# Altium schematic symbol library MitchSwitch_Bypass.SCHLIB: 283 symbols (part 3 of 3)
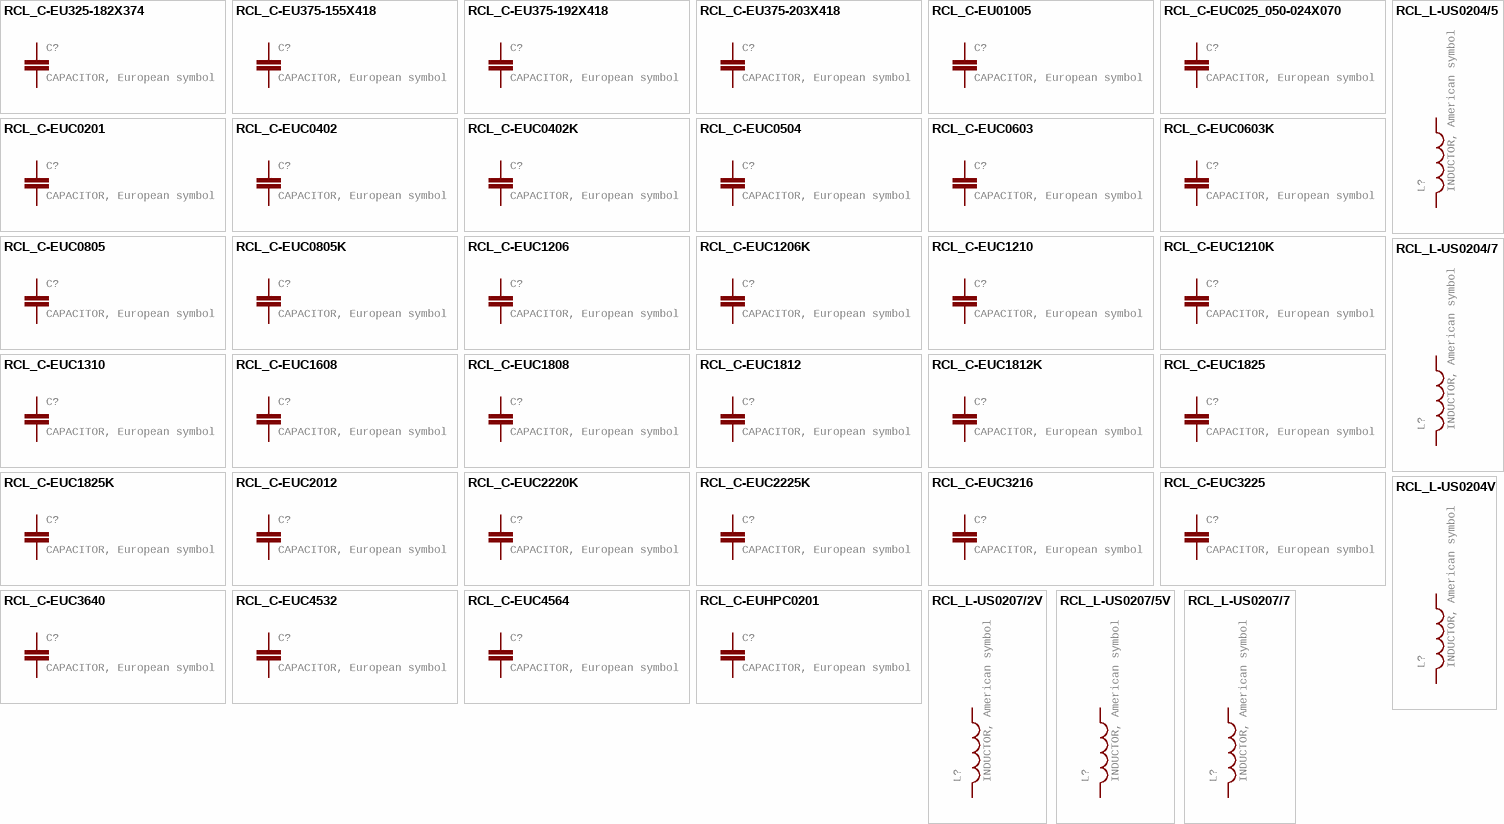
[diagram p11: symbols RCL_C-EU325-182X374 to RCL_L-US0207/7]

## RCL_C-EU375-192X418
designator C?, comment CAPACITOR, European symbol
GateName_1: G$1; SymbolName_1: RCL_C-EU; DeviceName: 375-192X418; POPULARITY: 0; LibraryName: MitchSwitch_Bypass; DeviceSetName: RCL_C-EU; Package: RCL_C375-192X418; SPICEPREFIX: C
footprint RCL_C375-192X418
pins: 1, 2

## RCL_C-EU375-203X418
designator C?, comment CAPACITOR, European symbol
GateName_1: G$1; SymbolName_1: RCL_C-EU; DeviceName: 375-203X418; POPULARITY: 0; LibraryName: MitchSwitch_Bypass; DeviceSetName: RCL_C-EU; Package: RCL_C375-203X418; SPICEPREFIX: C
footprint RCL_C375-203X418
pins: 1, 2

## RCL_C-EU01005
designator C?, comment CAPACITOR, European symbol
GateName_1: G$1; SymbolName_1: RCL_C-EU; DeviceName: 01005; POPULARITY: 0; LibraryName: MitchSwitch_Bypass; DeviceSetName: RCL_C-EU; Package: RCL_C01005; SPICEPREFIX: C
footprint RCL_C01005
pins: 1, 2

## RCL_C-EUC025_050-024X070
designator C?, comment CAPACITOR, European symbol
GateName_1: G$1; SymbolName_1: RCL_C-EU; DeviceName: C025_050-024X070; POPULARITY: 0; LibraryName: MitchSwitch_Bypass; DeviceSetName: RCL_C-EU; Package: RCL_C025_050-024X070; SPICEPREFIX: C
footprint RCL_C025_050-024X070
pins: 1, 2

## RCL_C-EUC0201
designator C?, comment CAPACITOR, European symbol
GateName_1: G$1; SymbolName_1: RCL_C-EU; DeviceName: C0201; POPULARITY: 0; LibraryName: MitchSwitch_Bypass; DeviceSetName: RCL_C-EU; Package: RCL_C0201; SPICEPREFIX: C
footprint RCL_C0201
pins: 1, 2

## RCL_C-EUC0402
designator C?, comment CAPACITOR, European symbol
GateName_1: G$1; SymbolName_1: RCL_C-EU; DeviceName: C0402; POPULARITY: 18; LibraryName: MitchSwitch_Bypass; DeviceSetName: RCL_C-EU; Package: RCL_C0402; SPICEPREFIX: C
footprint RCL_C0402
pins: 1, 2

## RCL_C-EUC0402K
designator C?, comment CAPACITOR, European symbol
GateName_1: G$1; SymbolName_1: RCL_C-EU; DeviceName: C0402K; POPULARITY: 15; LibraryName: MitchSwitch_Bypass; DeviceSetName: RCL_C-EU; Package: RCL_C0402K; SPICEPREFIX: C
footprint RCL_C0402K
pins: 1, 2

## RCL_C-EUC0504
designator C?, comment CAPACITOR, European symbol
GateName_1: G$1; SymbolName_1: RCL_C-EU; DeviceName: C0504; POPULARITY: 2; LibraryName: MitchSwitch_Bypass; DeviceSetName: RCL_C-EU; Package: RCL_C0504; SPICEPREFIX: C
footprint RCL_C0504
pins: 1, 2

## RCL_C-EUC0603
designator C?, comment CAPACITOR, European symbol
GateName_1: G$1; SymbolName_1: RCL_C-EU; DeviceName: C0603; POPULARITY: 73; LibraryName: MitchSwitch_Bypass; DeviceSetName: RCL_C-EU; Package: RCL_C0603; SPICEPREFIX: C
footprint RCL_C0603
pins: 1, 2

## RCL_C-EUC0603K
designator C?, comment CAPACITOR, European symbol
GateName_1: G$1; SymbolName_1: RCL_C-EU; DeviceName: C0603K; POPULARITY: 30; LibraryName: MitchSwitch_Bypass; DeviceSetName: RCL_C-EU; Package: RCL_C0603K; SPICEPREFIX: C
footprint RCL_C0603K
pins: 1, 2

## RCL_C-EUC0805
designator C?, comment CAPACITOR, European symbol
GateName_1: G$1; SymbolName_1: RCL_C-EU; DeviceName: C0805; POPULARITY: 88; LibraryName: MitchSwitch_Bypass; DeviceSetName: RCL_C-EU; Package: RCL_C0805; SPICEPREFIX: C
footprint RCL_C0805
pins: 1, 2

## RCL_C-EUC0805K
designator C?, comment CAPACITOR, European symbol
GateName_1: G$1; SymbolName_1: RCL_C-EU; DeviceName: C0805K; POPULARITY: 52; LibraryName: MitchSwitch_Bypass; DeviceSetName: RCL_C-EU; Package: RCL_C0805K; SPICEPREFIX: C
footprint RCL_C0805K
pins: 1, 2

## RCL_C-EUC1206
designator C?, comment CAPACITOR, European symbol
GateName_1: G$1; SymbolName_1: RCL_C-EU; DeviceName: C1206; POPULARITY: 54; LibraryName: MitchSwitch_Bypass; DeviceSetName: RCL_C-EU; Package: RCL_C1206; SPICEPREFIX: C
footprint RCL_C1206
pins: 1, 2

## RCL_C-EUC1206K
designator C?, comment CAPACITOR, European symbol
GateName_1: G$1; SymbolName_1: RCL_C-EU; DeviceName: C1206K; POPULARITY: 13; LibraryName: MitchSwitch_Bypass; DeviceSetName: RCL_C-EU; Package: RCL_C1206K; SPICEPREFIX: C
footprint RCL_C1206K
pins: 1, 2

## RCL_C-EUC1210
designator C?, comment CAPACITOR, European symbol
GateName_1: G$1; SymbolName_1: RCL_C-EU; DeviceName: C1210; POPULARITY: 0; LibraryName: MitchSwitch_Bypass; DeviceSetName: RCL_C-EU; Package: RCL_C1210; SPICEPREFIX: C
footprint RCL_C1210
pins: 1, 2

## RCL_C-EUC1210K
designator C?, comment CAPACITOR, European symbol
GateName_1: G$1; SymbolName_1: RCL_C-EU; DeviceName: C1210K; POPULARITY: 0; LibraryName: MitchSwitch_Bypass; DeviceSetName: RCL_C-EU; Package: RCL_C1210K; SPICEPREFIX: C
footprint RCL_C1210K
pins: 1, 2

## RCL_C-EUC1310
designator C?, comment CAPACITOR, European symbol
GateName_1: G$1; SymbolName_1: RCL_C-EU; DeviceName: C1310; POPULARITY: 0; LibraryName: MitchSwitch_Bypass; DeviceSetName: RCL_C-EU; Package: RCL_C1310; SPICEPREFIX: C
footprint RCL_C1310
pins: 1, 2

## RCL_C-EUC1608
designator C?, comment CAPACITOR, European symbol
GateName_1: G$1; SymbolName_1: RCL_C-EU; DeviceName: C1608; POPULARITY: 3; LibraryName: MitchSwitch_Bypass; DeviceSetName: RCL_C-EU; Package: RCL_C1608; SPICEPREFIX: C
footprint RCL_C1608
pins: 1, 2

## RCL_C-EUC1808
designator C?, comment CAPACITOR, European symbol
GateName_1: G$1; SymbolName_1: RCL_C-EU; DeviceName: C1808; POPULARITY: 0; LibraryName: MitchSwitch_Bypass; DeviceSetName: RCL_C-EU; Package: RCL_C1808; SPICEPREFIX: C
footprint RCL_C1808
pins: 1, 2

## RCL_C-EUC1812
designator C?, comment CAPACITOR, European symbol
GateName_1: G$1; SymbolName_1: RCL_C-EU; DeviceName: C1812; POPULARITY: 3; LibraryName: MitchSwitch_Bypass; DeviceSetName: RCL_C-EU; Package: RCL_C1812; SPICEPREFIX: C
footprint RCL_C1812
pins: 1, 2

## RCL_C-EUC1812K
designator C?, comment CAPACITOR, European symbol
GateName_1: G$1; SymbolName_1: RCL_C-EU; DeviceName: C1812K; POPULARITY: 0; LibraryName: MitchSwitch_Bypass; DeviceSetName: RCL_C-EU; Package: RCL_C1812K; SPICEPREFIX: C
footprint RCL_C1812K
pins: 1, 2

## RCL_C-EUC1825
designator C?, comment CAPACITOR, European symbol
GateName_1: G$1; SymbolName_1: RCL_C-EU; DeviceName: C1825; POPULARITY: 0; LibraryName: MitchSwitch_Bypass; DeviceSetName: RCL_C-EU; Package: RCL_C1825; SPICEPREFIX: C
footprint RCL_C1825
pins: 1, 2

## RCL_C-EUC1825K
designator C?, comment CAPACITOR, European symbol
GateName_1: G$1; SymbolName_1: RCL_C-EU; DeviceName: C1825K; POPULARITY: 0; LibraryName: MitchSwitch_Bypass; DeviceSetName: RCL_C-EU; Package: RCL_C1825K; SPICEPREFIX: C
footprint RCL_C1825K
pins: 1, 2

## RCL_C-EUC2012
designator C?, comment CAPACITOR, European symbol
GateName_1: G$1; SymbolName_1: RCL_C-EU; DeviceName: C2012; POPULARITY: 0; LibraryName: MitchSwitch_Bypass; DeviceSetName: RCL_C-EU; Package: RCL_C2012; SPICEPREFIX: C
footprint RCL_C2012
pins: 1, 2

## RCL_C-EUC2220K
designator C?, comment CAPACITOR, European symbol
GateName_1: G$1; SymbolName_1: RCL_C-EU; DeviceName: C2220K; POPULARITY: 0; LibraryName: MitchSwitch_Bypass; DeviceSetName: RCL_C-EU; Package: RCL_C2220K; SPICEPREFIX: C
footprint RCL_C2220K
pins: 1, 2

## RCL_C-EUC2225K
designator C?, comment CAPACITOR, European symbol
GateName_1: G$1; SymbolName_1: RCL_C-EU; DeviceName: C2225K; POPULARITY: 0; LibraryName: MitchSwitch_Bypass; DeviceSetName: RCL_C-EU; Package: RCL_C2225K; SPICEPREFIX: C
footprint RCL_C2225K
pins: 1, 2

## RCL_C-EUC3216
designator C?, comment CAPACITOR, European symbol
GateName_1: G$1; SymbolName_1: RCL_C-EU; DeviceName: C3216; POPULARITY: 4; LibraryName: MitchSwitch_Bypass; DeviceSetName: RCL_C-EU; Package: RCL_C3216; SPICEPREFIX: C
footprint RCL_C3216
pins: 1, 2

## RCL_C-EUC3225
designator C?, comment CAPACITOR, European symbol
GateName_1: G$1; SymbolName_1: RCL_C-EU; DeviceName: C3225; POPULARITY: 0; LibraryName: MitchSwitch_Bypass; DeviceSetName: RCL_C-EU; Package: RCL_C3225; SPICEPREFIX: C
footprint RCL_C3225
pins: 1, 2

## RCL_C-EUC3640
designator C?, comment CAPACITOR, European symbol
GateName_1: G$1; SymbolName_1: RCL_C-EU; DeviceName: C3640; POPULARITY: 0; LibraryName: MitchSwitch_Bypass; DeviceSetName: RCL_C-EU; Package: RCL_C3640; SPICEPREFIX: C
footprint RCL_C3640
pins: 1, 2

## RCL_C-EUC4532
designator C?, comment CAPACITOR, European symbol
GateName_1: G$1; SymbolName_1: RCL_C-EU; DeviceName: C4532; POPULARITY: 0; LibraryName: MitchSwitch_Bypass; DeviceSetName: RCL_C-EU; Package: RCL_C4532; SPICEPREFIX: C
footprint RCL_C4532
pins: 1, 2

## RCL_C-EUC4564
designator C?, comment CAPACITOR, European symbol
GateName_1: G$1; SymbolName_1: RCL_C-EU; DeviceName: C4564; POPULARITY: 0; LibraryName: MitchSwitch_Bypass; DeviceSetName: RCL_C-EU; Package: RCL_C4564; SPICEPREFIX: C
footprint RCL_C4564
pins: 1, 2

## RCL_C-EUHPC0201
designator C?, comment CAPACITOR, European symbol
GateName_1: G$1; SymbolName_1: RCL_C-EU; DeviceName: HPC0201; POPULARITY: 0; LibraryName: MitchSwitch_Bypass; DeviceSetName: RCL_C-EU; Package: RCL_HPC0201; SPICEPREFIX: C
footprint RCL_HPC0201
pins: 1, 2

## RCL_L-US0204/5
designator L?, comment INDUCTOR, American symbol
GateName_1: G$1; SymbolName_1: RCL_L-US; DeviceName: 0204/5; POPULARITY: 0; LibraryName: MitchSwitch_Bypass; DeviceSetName: RCL_L-US; Package: RCL_0204/5; SPICEPREFIX: L
footprint RCL_0204/5
pins: 1, 2

## RCL_L-US0204/7
designator L?, comment INDUCTOR, American symbol
GateName_1: G$1; SymbolName_1: RCL_L-US; DeviceName: 0204/7; POPULARITY: 8; LibraryName: MitchSwitch_Bypass; DeviceSetName: RCL_L-US; Package: RCL_0204/7; SPICEPREFIX: L
footprint RCL_0204/7
pins: 1, 2

## RCL_L-US0204V
designator L?, comment INDUCTOR, American symbol
GateName_1: G$1; SymbolName_1: RCL_L-US; DeviceName: 0204V; POPULARITY: 0; LibraryName: MitchSwitch_Bypass; DeviceSetName: RCL_L-US; Package: RCL_0204V; SPICEPREFIX: L
footprint RCL_0204V
pins: 1, 2

## RCL_L-US0207/2V
designator L?, comment INDUCTOR, American symbol
GateName_1: G$1; SymbolName_1: RCL_L-US; DeviceName: 0207/2V; POPULARITY: 0; LibraryName: MitchSwitch_Bypass; DeviceSetName: RCL_L-US; Package: RCL_0207/2V; SPICEPREFIX: L
footprint RCL_0207/2V
pins: 1, 2

## RCL_L-US0207/5V
designator L?, comment INDUCTOR, American symbol
GateName_1: G$1; SymbolName_1: RCL_L-US; DeviceName: 0207/5V; POPULARITY: 0; LibraryName: MitchSwitch_Bypass; DeviceSetName: RCL_L-US; Package: RCL_0207/5V; SPICEPREFIX: L
footprint RCL_0207/5V
pins: 1, 2

## RCL_L-US0207/7
designator L?, comment INDUCTOR, American symbol
GateName_1: G$1; SymbolName_1: RCL_L-US; DeviceName: 0207/7; POPULARITY: 2; LibraryName: MitchSwitch_Bypass; DeviceSetName: RCL_L-US; Package: RCL_0207/7; SPICEPREFIX: L
footprint RCL_0207/7
pins: 1, 2

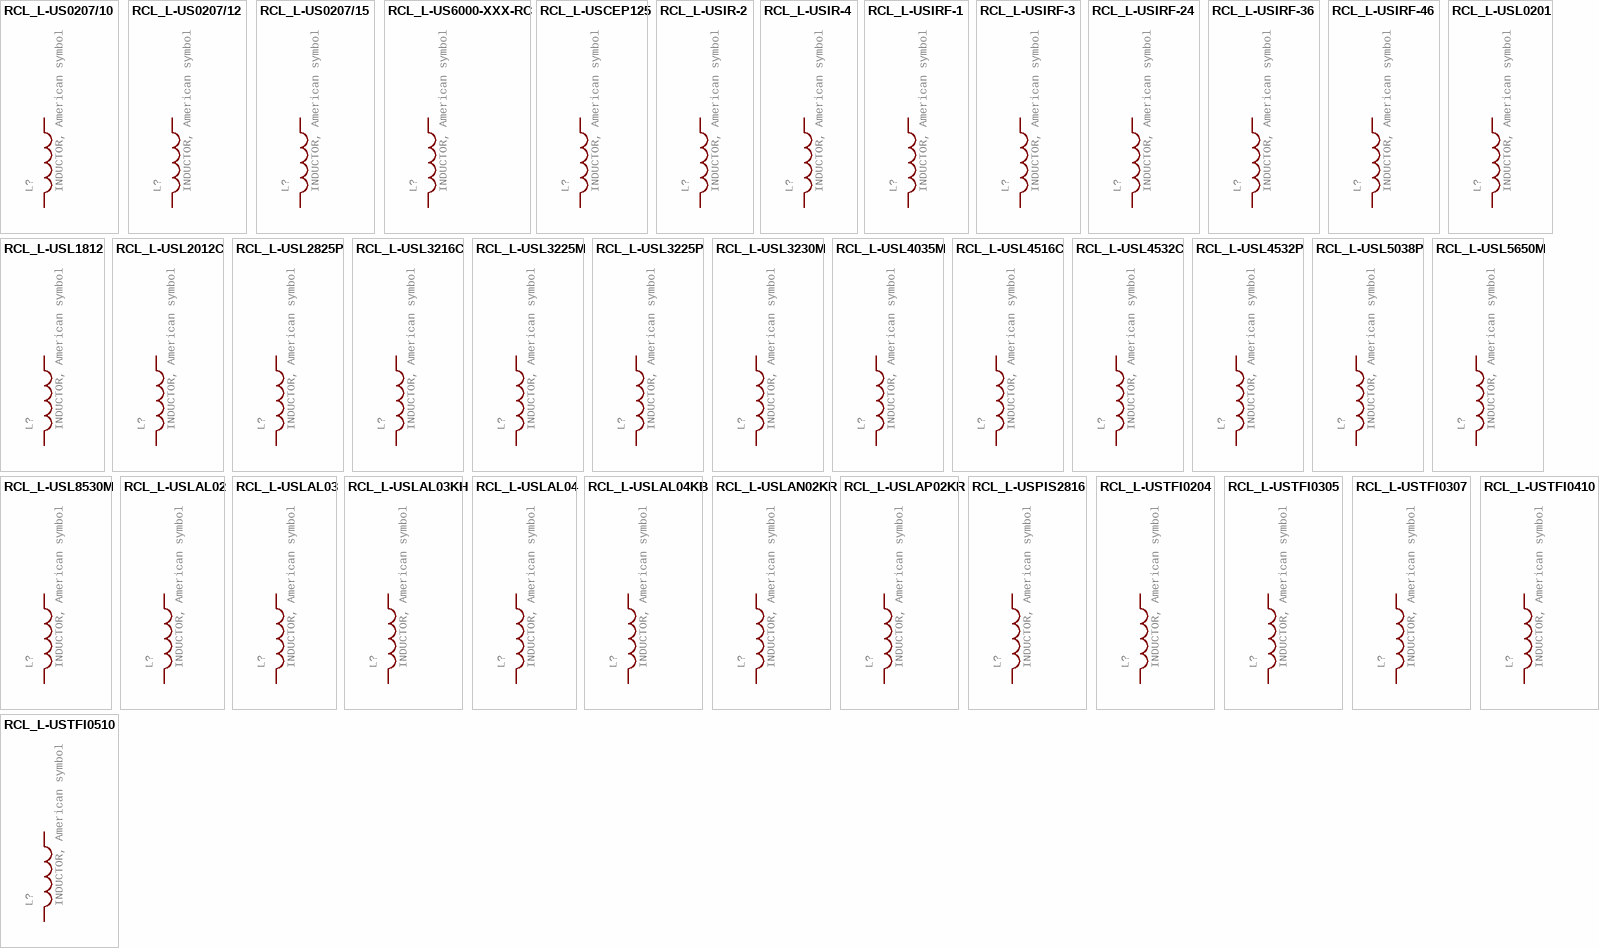
[diagram p6: symbols RCL_L-US0207/10 to RCL_L-USTFI0510]

## RCL_L-US0207/10
designator L?, comment INDUCTOR, American symbol
GateName_1: G$1; SymbolName_1: RCL_L-US; DeviceName: 0207/10; POPULARITY: 6; LibraryName: MitchSwitch_Bypass; DeviceSetName: RCL_L-US; Package: RCL_0207/10; SPICEPREFIX: L
footprint RCL_0207/10
pins: 1, 2

## RCL_L-US0207/12
designator L?, comment INDUCTOR, American symbol
GateName_1: G$1; SymbolName_1: RCL_L-US; DeviceName: 0207/12; POPULARITY: 0; LibraryName: MitchSwitch_Bypass; DeviceSetName: RCL_L-US; Package: RCL_0207/12; SPICEPREFIX: L
footprint RCL_0207/12
pins: 1, 2

## RCL_L-US0207/15
designator L?, comment INDUCTOR, American symbol
GateName_1: G$1; SymbolName_1: RCL_L-US; DeviceName: 0207/15; POPULARITY: 0; LibraryName: MitchSwitch_Bypass; DeviceSetName: RCL_L-US; Package: RCL_0207/15; SPICEPREFIX: L
footprint RCL_0207/15
pins: 1, 2

## RCL_L-US6000-XXX-RC
designator L?, comment INDUCTOR, American symbol
GateName_1: G$1; SymbolName_1: RCL_L-US; DeviceName: 6000-XXX-RC; POPULARITY: 5; LibraryName: MitchSwitch_Bypass; DeviceSetName: RCL_L-US; Package: RCL_6000-XXXX-RC; SPICEPREFIX: L
footprint RCL_6000-XXXX-RC
pins: 1, 2

## RCL_L-USCEP125
designator L?, comment INDUCTOR, American symbol
GateName_1: G$1; SymbolName_1: RCL_L-US; DeviceName: CEP125; POPULARITY: 0; LibraryName: MitchSwitch_Bypass; DeviceSetName: RCL_L-US; Package: RCL_CEP125; SPICEPREFIX: L
footprint RCL_CEP125
pins: 1, 2

## RCL_L-USIR-2
designator L?, comment INDUCTOR, American symbol
GateName_1: G$1; SymbolName_1: RCL_L-US; DeviceName: IR-2; POPULARITY: 0; LibraryName: MitchSwitch_Bypass; DeviceSetName: RCL_L-US; Package: RCL_IR-2; SPICEPREFIX: L
footprint RCL_IR-2
pins: 1, 2

## RCL_L-USIR-4
designator L?, comment INDUCTOR, American symbol
GateName_1: G$1; SymbolName_1: RCL_L-US; DeviceName: IR-4; POPULARITY: 0; LibraryName: MitchSwitch_Bypass; DeviceSetName: RCL_L-US; Package: RCL_IR-4; SPICEPREFIX: L
footprint RCL_IR-4
pins: 1, 2

## RCL_L-USIRF-1
designator L?, comment INDUCTOR, American symbol
GateName_1: G$1; SymbolName_1: RCL_L-US; DeviceName: IRF-1; POPULARITY: 0; LibraryName: MitchSwitch_Bypass; DeviceSetName: RCL_L-US; Package: RCL_IRF-1; SPICEPREFIX: L
footprint RCL_IRF-1
pins: 1, 2

## RCL_L-USIRF-3
designator L?, comment INDUCTOR, American symbol
GateName_1: G$1; SymbolName_1: RCL_L-US; DeviceName: IRF-3; POPULARITY: 0; LibraryName: MitchSwitch_Bypass; DeviceSetName: RCL_L-US; Package: RCL_IRF-3; SPICEPREFIX: L
footprint RCL_IRF-3
pins: 1, 2

## RCL_L-USIRF-24
designator L?, comment INDUCTOR, American symbol
GateName_1: G$1; SymbolName_1: RCL_L-US; DeviceName: IRF-24; POPULARITY: 0; LibraryName: MitchSwitch_Bypass; DeviceSetName: RCL_L-US; Package: RCL_IRF24; SPICEPREFIX: L
footprint RCL_IRF24
pins: 1, 2

## RCL_L-USIRF-36
designator L?, comment INDUCTOR, American symbol
GateName_1: G$1; SymbolName_1: RCL_L-US; DeviceName: IRF-36; POPULARITY: 0; LibraryName: MitchSwitch_Bypass; DeviceSetName: RCL_L-US; Package: RCL_IRF36; SPICEPREFIX: L
footprint RCL_IRF36
pins: 1, 2

## RCL_L-USIRF-46
designator L?, comment INDUCTOR, American symbol
GateName_1: G$1; SymbolName_1: RCL_L-US; DeviceName: IRF-46; POPULARITY: 0; LibraryName: MitchSwitch_Bypass; DeviceSetName: RCL_L-US; Package: RCL_IRF46; SPICEPREFIX: L
footprint RCL_IRF46
pins: 1, 2

## RCL_L-USL0201
designator L?, comment INDUCTOR, American symbol
GateName_1: G$1; SymbolName_1: RCL_L-US; DeviceName: L0201; POPULARITY: 0; LibraryName: MitchSwitch_Bypass; DeviceSetName: RCL_L-US; Package: RCL_L0201; SPICEPREFIX: L
footprint RCL_L0201
pins: 1, 2

## RCL_L-USL1812
designator L?, comment INDUCTOR, American symbol
GateName_1: G$1; SymbolName_1: RCL_L-US; DeviceName: L1812; POPULARITY: 3; LibraryName: MitchSwitch_Bypass; DeviceSetName: RCL_L-US; Package: RCL_L1812; SPICEPREFIX: L
footprint RCL_L1812
pins: 1, 2

## RCL_L-USL2012C
designator L?, comment INDUCTOR, American symbol
GateName_1: G$1; SymbolName_1: RCL_L-US; DeviceName: L2012C; POPULARITY: 6; LibraryName: MitchSwitch_Bypass; DeviceSetName: RCL_L-US; Package: RCL_L2012C; SPICEPREFIX: L
footprint RCL_L2012C
pins: 1, 2

## RCL_L-USL2825P
designator L?, comment INDUCTOR, American symbol
GateName_1: G$1; SymbolName_1: RCL_L-US; DeviceName: L2825P; POPULARITY: 3; LibraryName: MitchSwitch_Bypass; DeviceSetName: RCL_L-US; Package: RCL_L2825P; SPICEPREFIX: L
footprint RCL_L2825P
pins: 1, 2

## RCL_L-USL3216C
designator L?, comment INDUCTOR, American symbol
GateName_1: G$1; SymbolName_1: RCL_L-US; DeviceName: L3216C; POPULARITY: 3; LibraryName: MitchSwitch_Bypass; DeviceSetName: RCL_L-US; Package: RCL_L3216C; SPICEPREFIX: L
footprint RCL_L3216C
pins: 1, 2

## RCL_L-USL3225M
designator L?, comment INDUCTOR, American symbol
GateName_1: G$1; SymbolName_1: RCL_L-US; DeviceName: L3225M; POPULARITY: 11; LibraryName: MitchSwitch_Bypass; DeviceSetName: RCL_L-US; Package: RCL_L3225M; SPICEPREFIX: L
footprint RCL_L3225M
pins: 1, 2

## RCL_L-USL3225P
designator L?, comment INDUCTOR, American symbol
GateName_1: G$1; SymbolName_1: RCL_L-US; DeviceName: L3225P; POPULARITY: 1; LibraryName: MitchSwitch_Bypass; DeviceSetName: RCL_L-US; Package: RCL_L3225P; SPICEPREFIX: L
footprint RCL_L3225P
pins: 1, 2

## RCL_L-USL3230M
designator L?, comment INDUCTOR, American symbol
GateName_1: G$1; SymbolName_1: RCL_L-US; DeviceName: L3230M; POPULARITY: 0; LibraryName: MitchSwitch_Bypass; DeviceSetName: RCL_L-US; Package: RCL_L3230M; SPICEPREFIX: L
footprint RCL_L3230M
pins: 1, 2

## RCL_L-USL4035M
designator L?, comment INDUCTOR, American symbol
GateName_1: G$1; SymbolName_1: RCL_L-US; DeviceName: L4035M; POPULARITY: 0; LibraryName: MitchSwitch_Bypass; DeviceSetName: RCL_L-US; Package: RCL_L4035M; SPICEPREFIX: L
footprint RCL_L4035M
pins: 1, 2

## RCL_L-USL4516C
designator L?, comment INDUCTOR, American symbol
GateName_1: G$1; SymbolName_1: RCL_L-US; DeviceName: L4516C; POPULARITY: 0; LibraryName: MitchSwitch_Bypass; DeviceSetName: RCL_L-US; Package: RCL_L4516C; SPICEPREFIX: L
footprint RCL_L4516C
pins: 1, 2

## RCL_L-USL4532C
designator L?, comment INDUCTOR, American symbol
GateName_1: G$1; SymbolName_1: RCL_L-US; DeviceName: L4532C; POPULARITY: 0; LibraryName: MitchSwitch_Bypass; DeviceSetName: RCL_L-US; Package: RCL_L4532M; SPICEPREFIX: L
footprint RCL_L4532M
pins: 1, 2

## RCL_L-USL4532P
designator L?, comment INDUCTOR, American symbol
GateName_1: G$1; SymbolName_1: RCL_L-US; DeviceName: L4532P; POPULARITY: 0; LibraryName: MitchSwitch_Bypass; DeviceSetName: RCL_L-US; Package: RCL_L4532P; SPICEPREFIX: L
footprint RCL_L4532P
pins: 1, 2

## RCL_L-USL5038P
designator L?, comment INDUCTOR, American symbol
GateName_1: G$1; SymbolName_1: RCL_L-US; DeviceName: L5038P; POPULARITY: 0; LibraryName: MitchSwitch_Bypass; DeviceSetName: RCL_L-US; Package: RCL_L5038P; SPICEPREFIX: L
footprint RCL_L5038P
pins: 1, 2

## RCL_L-USL5650M
designator L?, comment INDUCTOR, American symbol
GateName_1: G$1; SymbolName_1: RCL_L-US; DeviceName: L5650M; POPULARITY: 0; LibraryName: MitchSwitch_Bypass; DeviceSetName: RCL_L-US; Package: RCL_L5650M; SPICEPREFIX: L
footprint RCL_L5650M
pins: 1, 2

## RCL_L-USL8530M
designator L?, comment INDUCTOR, American symbol
GateName_1: G$1; SymbolName_1: RCL_L-US; DeviceName: L8530M; POPULARITY: 0; LibraryName: MitchSwitch_Bypass; DeviceSetName: RCL_L-US; Package: RCL_L8530M; SPICEPREFIX: L
footprint RCL_L8530M
pins: 1, 2

## RCL_L-USLAL02
designator L?, comment INDUCTOR, American symbol
GateName_1: G$1; SymbolName_1: RCL_L-US; DeviceName: LAL02; POPULARITY: 0; LibraryName: MitchSwitch_Bypass; DeviceSetName: RCL_L-US; Package: RCL_LAL02; SPICEPREFIX: L
footprint RCL_LAL02
pins: 1, 2

## RCL_L-USLAL03
designator L?, comment INDUCTOR, American symbol
GateName_1: G$1; SymbolName_1: RCL_L-US; DeviceName: LAL03; POPULARITY: 0; LibraryName: MitchSwitch_Bypass; DeviceSetName: RCL_L-US; Package: RCL_LAL03; SPICEPREFIX: L
footprint RCL_LAL03
pins: 1, 2

## RCL_L-USLAL03KH
designator L?, comment INDUCTOR, American symbol
GateName_1: G$1; SymbolName_1: RCL_L-US; DeviceName: LAL03KH; POPULARITY: 0; LibraryName: MitchSwitch_Bypass; DeviceSetName: RCL_L-US; Package: RCL_LAL03KH; SPICEPREFIX: L
footprint RCL_LAL03KH
pins: 1, 2

## RCL_L-USLAL04
designator L?, comment INDUCTOR, American symbol
GateName_1: G$1; SymbolName_1: RCL_L-US; DeviceName: LAL04; POPULARITY: 0; LibraryName: MitchSwitch_Bypass; DeviceSetName: RCL_L-US; Package: RCL_LAL04; SPICEPREFIX: L
footprint RCL_LAL04
pins: 1, 2

## RCL_L-USLAL04KB
designator L?, comment INDUCTOR, American symbol
GateName_1: G$1; SymbolName_1: RCL_L-US; DeviceName: LAL04KB; POPULARITY: 0; LibraryName: MitchSwitch_Bypass; DeviceSetName: RCL_L-US; Package: RCL_LAL04KB; SPICEPREFIX: L
footprint RCL_LAL04KB
pins: 1, 2

## RCL_L-USLAN02KR
designator L?, comment INDUCTOR, American symbol
GateName_1: G$1; SymbolName_1: RCL_L-US; DeviceName: LAN02KR; POPULARITY: 1; LibraryName: MitchSwitch_Bypass; DeviceSetName: RCL_L-US; Package: RCL_LAN02KR; SPICEPREFIX: L
footprint RCL_LAN02KR
pins: 1, 2

## RCL_L-USLAP02KR
designator L?, comment INDUCTOR, American symbol
GateName_1: G$1; SymbolName_1: RCL_L-US; DeviceName: LAP02KR; POPULARITY: 0; LibraryName: MitchSwitch_Bypass; DeviceSetName: RCL_L-US; Package: RCL_LAP02KR; SPICEPREFIX: L
footprint RCL_LAP02KR
pins: 1, 2

## RCL_L-USPIS2816
designator L?, comment INDUCTOR, American symbol
GateName_1: G$1; SymbolName_1: RCL_L-US; DeviceName: PIS2816; POPULARITY: 0; LibraryName: MitchSwitch_Bypass; DeviceSetName: RCL_L-US; Package: RCL_PIS2816; SPICEPREFIX: L
footprint RCL_PIS2816
pins: 1, 2

## RCL_L-USTFI0204
designator L?, comment INDUCTOR, American symbol
GateName_1: G$1; SymbolName_1: RCL_L-US; DeviceName: TFI0204; POPULARITY: 0; LibraryName: MitchSwitch_Bypass; DeviceSetName: RCL_L-US; Package: RCL_TFI0204; SPICEPREFIX: L
footprint RCL_TFI0204
pins: 1, 2

## RCL_L-USTFI0305
designator L?, comment INDUCTOR, American symbol
GateName_1: G$1; SymbolName_1: RCL_L-US; DeviceName: TFI0305; POPULARITY: 0; LibraryName: MitchSwitch_Bypass; DeviceSetName: RCL_L-US; Package: RCL_TFI0305; SPICEPREFIX: L
footprint RCL_TFI0305
pins: 1, 2

## RCL_L-USTFI0307
designator L?, comment INDUCTOR, American symbol
GateName_1: G$1; SymbolName_1: RCL_L-US; DeviceName: TFI0307; POPULARITY: 1; LibraryName: MitchSwitch_Bypass; DeviceSetName: RCL_L-US; Package: RCL_TFI0307; SPICEPREFIX: L
footprint RCL_TFI0307
pins: 1, 2

## RCL_L-USTFI0410
designator L?, comment INDUCTOR, American symbol
GateName_1: G$1; SymbolName_1: RCL_L-US; DeviceName: TFI0410; POPULARITY: 0; LibraryName: MitchSwitch_Bypass; DeviceSetName: RCL_L-US; Package: RCL_TFI0410; SPICEPREFIX: L
footprint RCL_TFI0410
pins: 1, 2

## RCL_L-USTFI0510
designator L?, comment INDUCTOR, American symbol
GateName_1: G$1; SymbolName_1: RCL_L-US; DeviceName: TFI0510; POPULARITY: 0; LibraryName: MitchSwitch_Bypass; DeviceSetName: RCL_L-US; Package: RCL_TFI0510; SPICEPREFIX: L
footprint RCL_TFI0510
pins: 1, 2

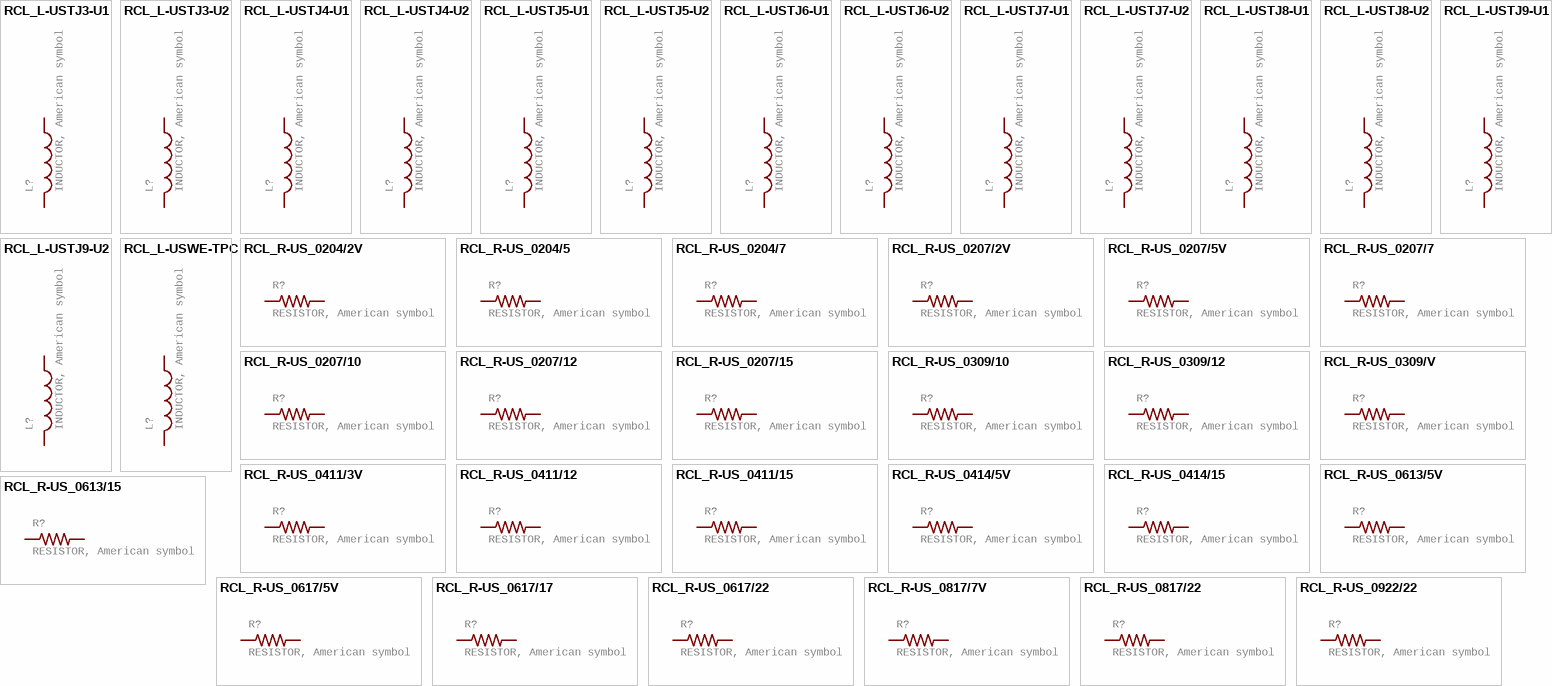
[diagram p7: symbols RCL_L-USTJ3-U1 to RCL_R-US_0922/22]

## RCL_L-USTJ3-U1
designator L?, comment INDUCTOR, American symbol
GateName_1: G$1; SymbolName_1: RCL_L-US; DeviceName: TJ3-U1; POPULARITY: 0; LibraryName: MitchSwitch_Bypass; DeviceSetName: RCL_L-US; Package: RCL_TJ3-U1; SPICEPREFIX: L
footprint RCL_TJ3-U1
pins: 1, 2

## RCL_L-USTJ3-U2
designator L?, comment INDUCTOR, American symbol
GateName_1: G$1; SymbolName_1: RCL_L-US; DeviceName: TJ3-U2; POPULARITY: 0; LibraryName: MitchSwitch_Bypass; DeviceSetName: RCL_L-US; Package: RCL_TJ3-U2; SPICEPREFIX: L
footprint RCL_TJ3-U2
pins: 1, 2

## RCL_L-USTJ4-U1
designator L?, comment INDUCTOR, American symbol
GateName_1: G$1; SymbolName_1: RCL_L-US; DeviceName: TJ4-U1; POPULARITY: 0; LibraryName: MitchSwitch_Bypass; DeviceSetName: RCL_L-US; Package: RCL_TJ4-U1; SPICEPREFIX: L
footprint RCL_TJ4-U1
pins: 1, 2

## RCL_L-USTJ4-U2
designator L?, comment INDUCTOR, American symbol
GateName_1: G$1; SymbolName_1: RCL_L-US; DeviceName: TJ4-U2; POPULARITY: 0; LibraryName: MitchSwitch_Bypass; DeviceSetName: RCL_L-US; Package: RCL_TJ4-U2; SPICEPREFIX: L
footprint RCL_TJ4-U2
pins: 1, 2

## RCL_L-USTJ5-U1
designator L?, comment INDUCTOR, American symbol
GateName_1: G$1; SymbolName_1: RCL_L-US; DeviceName: TJ5-U1; POPULARITY: 0; LibraryName: MitchSwitch_Bypass; DeviceSetName: RCL_L-US; Package: RCL_TJ5-U1; SPICEPREFIX: L
footprint RCL_TJ5-U1
pins: 1, 2

## RCL_L-USTJ5-U2
designator L?, comment INDUCTOR, American symbol
GateName_1: G$1; SymbolName_1: RCL_L-US; DeviceName: TJ5-U2; POPULARITY: 0; LibraryName: MitchSwitch_Bypass; DeviceSetName: RCL_L-US; Package: RCL_TJ5-U2; SPICEPREFIX: L
footprint RCL_TJ5-U2
pins: 1, 2

## RCL_L-USTJ6-U1
designator L?, comment INDUCTOR, American symbol
GateName_1: G$1; SymbolName_1: RCL_L-US; DeviceName: TJ6-U1; POPULARITY: 0; LibraryName: MitchSwitch_Bypass; DeviceSetName: RCL_L-US; Package: RCL_TJ6-U1; SPICEPREFIX: L
footprint RCL_TJ6-U1
pins: 1, 2

## RCL_L-USTJ6-U2
designator L?, comment INDUCTOR, American symbol
GateName_1: G$1; SymbolName_1: RCL_L-US; DeviceName: TJ6-U2; POPULARITY: 0; LibraryName: MitchSwitch_Bypass; DeviceSetName: RCL_L-US; Package: RCL_TJ6-U2; SPICEPREFIX: L
footprint RCL_TJ6-U2
pins: 1, 2

## RCL_L-USTJ7-U1
designator L?, comment INDUCTOR, American symbol
GateName_1: G$1; SymbolName_1: RCL_L-US; DeviceName: TJ7-U1; POPULARITY: 0; LibraryName: MitchSwitch_Bypass; DeviceSetName: RCL_L-US; Package: RCL_TJ7-U1; SPICEPREFIX: L
footprint RCL_TJ7-U1
pins: 1, 2

## RCL_L-USTJ7-U2
designator L?, comment INDUCTOR, American symbol
GateName_1: G$1; SymbolName_1: RCL_L-US; DeviceName: TJ7-U2; POPULARITY: 0; LibraryName: MitchSwitch_Bypass; DeviceSetName: RCL_L-US; Package: RCL_TJ7-U2; SPICEPREFIX: L
footprint RCL_TJ7-U2
pins: 1, 2

## RCL_L-USTJ8-U1
designator L?, comment INDUCTOR, American symbol
GateName_1: G$1; SymbolName_1: RCL_L-US; DeviceName: TJ8-U1; POPULARITY: 0; LibraryName: MitchSwitch_Bypass; DeviceSetName: RCL_L-US; Package: RCL_TJ8-U1; SPICEPREFIX: L
footprint RCL_TJ8-U1
pins: 1, 2

## RCL_L-USTJ8-U2
designator L?, comment INDUCTOR, American symbol
GateName_1: G$1; SymbolName_1: RCL_L-US; DeviceName: TJ8-U2; POPULARITY: 0; LibraryName: MitchSwitch_Bypass; DeviceSetName: RCL_L-US; Package: RCL_TJ8-U2; SPICEPREFIX: L
footprint RCL_TJ8-U2
pins: 1, 2

## RCL_L-USTJ9-U1
designator L?, comment INDUCTOR, American symbol
GateName_1: G$1; SymbolName_1: RCL_L-US; DeviceName: TJ9-U1; POPULARITY: 0; LibraryName: MitchSwitch_Bypass; DeviceSetName: RCL_L-US; Package: RCL_TJ9-U1; SPICEPREFIX: L
footprint RCL_TJ9-U1
pins: 1, 2

## RCL_L-USTJ9-U2
designator L?, comment INDUCTOR, American symbol
GateName_1: G$1; SymbolName_1: RCL_L-US; DeviceName: TJ9-U2; POPULARITY: 0; LibraryName: MitchSwitch_Bypass; DeviceSetName: RCL_L-US; Package: RCL_TJ9-U2; SPICEPREFIX: L
footprint RCL_TJ9-U2
pins: 1, 2

## RCL_L-USWE-TPC
designator L?, comment INDUCTOR, American symbol
GateName_1: G$1; SymbolName_1: RCL_L-US; DeviceName: WE-TPC; POPULARITY: 0; LibraryName: MitchSwitch_Bypass; DeviceSetName: RCL_L-US; Package: RCL_POWER-CHOKE_WE-TPC; SPICEPREFIX: L
footprint RCL_POWER-CHOKE_WE-TPC
pins: 1, 2

## RCL_R-US_0204/2V
designator R?, comment RESISTOR, American symbol
GateName_1: G$1; SymbolName_1: RCL_R-US; DeviceName: 0204/2V; DeviceSetName: RCL_R-US_; POPULARITY: 0; LibraryName: MitchSwitch_Bypass; Package: RCL_0204V; SPICEPREFIX: R
footprint RCL_0204V
pins: 1, 2

## RCL_R-US_0204/5
designator R?, comment RESISTOR, American symbol
GateName_1: G$1; SymbolName_1: RCL_R-US; DeviceName: 0204/5; DeviceSetName: RCL_R-US_; POPULARITY: 18; LibraryName: MitchSwitch_Bypass; Package: RCL_0204/5; SPICEPREFIX: R
footprint RCL_0204/5
pins: 1, 2

## RCL_R-US_0204/7
designator R?, comment RESISTOR, American symbol
GateName_1: G$1; SymbolName_1: RCL_R-US; DeviceName: 0204/7; DeviceSetName: RCL_R-US_; POPULARITY: 48; LibraryName: MitchSwitch_Bypass; Package: RCL_0204/7; SPICEPREFIX: R
footprint RCL_0204/7
pins: 1, 2

## RCL_R-US_0207/2V
designator R?, comment RESISTOR, American symbol
GateName_1: G$1; SymbolName_1: RCL_R-US; DeviceName: 0207/2V; DeviceSetName: RCL_R-US_; POPULARITY: 0; LibraryName: MitchSwitch_Bypass; Package: RCL_0207/2V; SPICEPREFIX: R
footprint RCL_0207/2V
pins: 1, 2

## RCL_R-US_0207/5V
designator R?, comment RESISTOR, American symbol
GateName_1: G$1; SymbolName_1: RCL_R-US; DeviceName: 0207/5V; DeviceSetName: RCL_R-US_; POPULARITY: 0; LibraryName: MitchSwitch_Bypass; Package: RCL_0207/5V; SPICEPREFIX: R
footprint RCL_0207/5V
pins: 1, 2

## RCL_R-US_0207/7
designator R?, comment RESISTOR, American symbol
GateName_1: G$1; SymbolName_1: RCL_R-US; DeviceName: 0207/7; DeviceSetName: RCL_R-US_; POPULARITY: 22; LibraryName: MitchSwitch_Bypass; Package: RCL_0207/7; SPICEPREFIX: R
footprint RCL_0207/7
pins: 1, 2

## RCL_R-US_0207/10
designator R?, comment RESISTOR, American symbol
GateName_1: G$1; SymbolName_1: RCL_R-US; DeviceName: 0207/10; DeviceSetName: RCL_R-US_; POPULARITY: 36; LibraryName: MitchSwitch_Bypass; Package: RCL_0207/10; SPICEPREFIX: R
footprint RCL_0207/10
pins: 1, 2

## RCL_R-US_0207/12
designator R?, comment RESISTOR, American symbol
GateName_1: G$1; SymbolName_1: RCL_R-US; DeviceName: 0207/12; DeviceSetName: RCL_R-US_; POPULARITY: 3; LibraryName: MitchSwitch_Bypass; Package: RCL_0207/12; SPICEPREFIX: R
footprint RCL_0207/12
pins: 1, 2

## RCL_R-US_0207/15
designator R?, comment RESISTOR, American symbol
GateName_1: G$1; SymbolName_1: RCL_R-US; DeviceName: 0207/15; DeviceSetName: RCL_R-US_; POPULARITY: 0; LibraryName: MitchSwitch_Bypass; Package: RCL_0207/15; SPICEPREFIX: R
footprint RCL_0207/15
pins: 1, 2

## RCL_R-US_0309/10
designator R?, comment RESISTOR, American symbol
GateName_1: G$1; SymbolName_1: RCL_R-US; DeviceName: 0309/10; DeviceSetName: RCL_R-US_; POPULARITY: 0; LibraryName: MitchSwitch_Bypass; Package: RCL_0309/10; SPICEPREFIX: R
footprint RCL_0309/10
pins: 1, 2

## RCL_R-US_0309/12
designator R?, comment RESISTOR, American symbol
GateName_1: G$1; SymbolName_1: RCL_R-US; DeviceName: 0309/12; DeviceSetName: RCL_R-US_; POPULARITY: 8; LibraryName: MitchSwitch_Bypass; Package: RCL_0309/12; SPICEPREFIX: R
footprint RCL_0309/12
pins: 1, 2

## RCL_R-US_0309/V
designator R?, comment RESISTOR, American symbol
GateName_1: G$1; SymbolName_1: RCL_R-US; DeviceName: 0309/V; DeviceSetName: RCL_R-US_; POPULARITY: 0; LibraryName: MitchSwitch_Bypass; Package: RCL_0309V; SPICEPREFIX: R
footprint RCL_0309V
pins: 1, 2

## RCL_R-US_0411/3V
designator R?, comment RESISTOR, American symbol
GateName_1: G$1; SymbolName_1: RCL_R-US; DeviceName: 0411/3V; DeviceSetName: RCL_R-US_; POPULARITY: 0; LibraryName: MitchSwitch_Bypass; Package: RCL_0411V; SPICEPREFIX: R
footprint RCL_0411V
pins: 1, 2

## RCL_R-US_0411/12
designator R?, comment RESISTOR, American symbol
GateName_1: G$1; SymbolName_1: RCL_R-US; DeviceName: 0411/12; DeviceSetName: RCL_R-US_; POPULARITY: 0; LibraryName: MitchSwitch_Bypass; Package: RCL_0411/12; SPICEPREFIX: R
footprint RCL_0411/12
pins: 1, 2

## RCL_R-US_0411/15
designator R?, comment RESISTOR, American symbol
GateName_1: G$1; SymbolName_1: RCL_R-US; DeviceName: 0411/15; DeviceSetName: RCL_R-US_; POPULARITY: 2; LibraryName: MitchSwitch_Bypass; Package: RCL_0411/15; SPICEPREFIX: R
footprint RCL_0411/15
pins: 1, 2

## RCL_R-US_0414/5V
designator R?, comment RESISTOR, American symbol
GateName_1: G$1; SymbolName_1: RCL_R-US; DeviceName: 0414/5V; DeviceSetName: RCL_R-US_; POPULARITY: 0; LibraryName: MitchSwitch_Bypass; Package: RCL_0414V; SPICEPREFIX: R
footprint RCL_0414V
pins: 1, 2

## RCL_R-US_0414/15
designator R?, comment RESISTOR, American symbol
GateName_1: G$1; SymbolName_1: RCL_R-US; DeviceName: 0414/15; DeviceSetName: RCL_R-US_; POPULARITY: 0; LibraryName: MitchSwitch_Bypass; Package: RCL_0414/15; SPICEPREFIX: R
footprint RCL_0414/15
pins: 1, 2

## RCL_R-US_0613/5V
designator R?, comment RESISTOR, American symbol
GateName_1: G$1; SymbolName_1: RCL_R-US; DeviceName: 0613/5V; DeviceSetName: RCL_R-US_; POPULARITY: 0; LibraryName: MitchSwitch_Bypass; Package: RCL_P0613V; SPICEPREFIX: R
footprint RCL_P0613V
pins: 1, 2

## RCL_R-US_0613/15
designator R?, comment RESISTOR, American symbol
GateName_1: G$1; SymbolName_1: RCL_R-US; DeviceName: 0613/15; DeviceSetName: RCL_R-US_; POPULARITY: 0; LibraryName: MitchSwitch_Bypass; Package: RCL_P0613/15; SPICEPREFIX: R
footprint RCL_P0613/15
pins: 1, 2

## RCL_R-US_0617/5V
designator R?, comment RESISTOR, American symbol
GateName_1: G$1; SymbolName_1: RCL_R-US; DeviceName: 0617/5V; DeviceSetName: RCL_R-US_; POPULARITY: 0; LibraryName: MitchSwitch_Bypass; Package: RCL_0617V; SPICEPREFIX: R
footprint RCL_0617V
pins: 1, 2

## RCL_R-US_0617/17
designator R?, comment RESISTOR, American symbol
GateName_1: G$1; SymbolName_1: RCL_R-US; DeviceName: 0617/17; DeviceSetName: RCL_R-US_; POPULARITY: 0; LibraryName: MitchSwitch_Bypass; Package: RCL_0617/17; SPICEPREFIX: R
footprint RCL_0617/17
pins: 1, 2

## RCL_R-US_0617/22
designator R?, comment RESISTOR, American symbol
GateName_1: G$1; SymbolName_1: RCL_R-US; DeviceName: 0617/22; DeviceSetName: RCL_R-US_; POPULARITY: 0; LibraryName: MitchSwitch_Bypass; Package: RCL_0617/22; SPICEPREFIX: R
footprint RCL_0617/22
pins: 1, 2

## RCL_R-US_0817/7V
designator R?, comment RESISTOR, American symbol
GateName_1: G$1; SymbolName_1: RCL_R-US; DeviceName: 0817/7V; DeviceSetName: RCL_R-US_; POPULARITY: 0; LibraryName: MitchSwitch_Bypass; Package: RCL_P0817V; SPICEPREFIX: R
footprint RCL_P0817V
pins: 1, 2

## RCL_R-US_0817/22
designator R?, comment RESISTOR, American symbol
GateName_1: G$1; SymbolName_1: RCL_R-US; DeviceName: 0817/22; DeviceSetName: RCL_R-US_; POPULARITY: 0; LibraryName: MitchSwitch_Bypass; Package: RCL_P0817/22; SPICEPREFIX: R
footprint RCL_P0817/22
pins: 1, 2

## RCL_R-US_0922/22
designator R?, comment RESISTOR, American symbol
GateName_1: G$1; SymbolName_1: RCL_R-US; DeviceName: 0922/22; DeviceSetName: RCL_R-US_; POPULARITY: 0; LibraryName: MitchSwitch_Bypass; Package: RCL_0922/22; SPICEPREFIX: R
footprint RCL_0922/22
pins: 1, 2

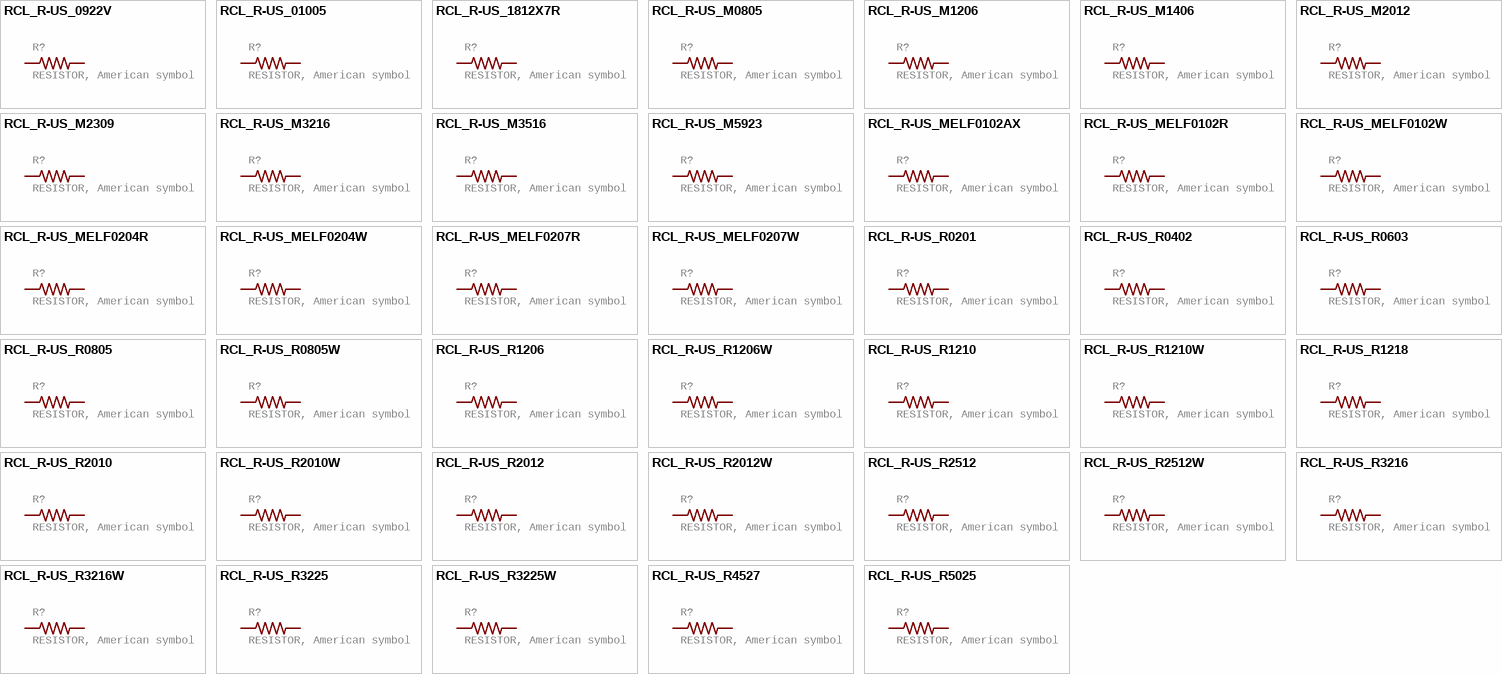
[diagram p8: symbols RCL_R-US_0922V to RCL_R-US_R5025]

## RCL_R-US_0922V
designator R?, comment RESISTOR, American symbol
GateName_1: G$1; SymbolName_1: RCL_R-US; DeviceName: 0922V; DeviceSetName: RCL_R-US_; POPULARITY: 0; LibraryName: MitchSwitch_Bypass; Package: RCL_0922V; SPICEPREFIX: R
footprint RCL_0922V
pins: 1, 2

## RCL_R-US_01005
designator R?, comment RESISTOR, American symbol
GateName_1: G$1; SymbolName_1: RCL_R-US; DeviceName: 01005; DeviceSetName: RCL_R-US_; POPULARITY: 1; LibraryName: MitchSwitch_Bypass; Package: RCL_R01005; SPICEPREFIX: R
footprint RCL_R01005
pins: 1, 2

## RCL_R-US_1812X7R
designator R?, comment RESISTOR, American symbol
GateName_1: G$1; SymbolName_1: RCL_R-US; DeviceName: 1812X7R; DeviceSetName: RCL_R-US_; POPULARITY: 0; LibraryName: MitchSwitch_Bypass; Package: RCL_1812X7R; SPICEPREFIX: R
footprint RCL_1812X7R
pins: 1, 2

## RCL_R-US_M0805
designator R?, comment RESISTOR, American symbol
GateName_1: G$1; SymbolName_1: RCL_R-US; DeviceName: M0805; DeviceSetName: RCL_R-US_; POPULARITY: 45; LibraryName: MitchSwitch_Bypass; Package: RCL_M0805; SPICEPREFIX: R
footprint RCL_M0805
pins: 1, 2

## RCL_R-US_M1206
designator R?, comment RESISTOR, American symbol
GateName_1: G$1; SymbolName_1: RCL_R-US; DeviceName: M1206; DeviceSetName: RCL_R-US_; POPULARITY: 22; LibraryName: MitchSwitch_Bypass; Package: RCL_M1206; SPICEPREFIX: R
footprint RCL_M1206
pins: 1, 2

## RCL_R-US_M1406
designator R?, comment RESISTOR, American symbol
GateName_1: G$1; SymbolName_1: RCL_R-US; DeviceName: M1406; DeviceSetName: RCL_R-US_; POPULARITY: 0; LibraryName: MitchSwitch_Bypass; Package: RCL_M1406; SPICEPREFIX: R
footprint RCL_M1406
pins: 1, 2

## RCL_R-US_M2012
designator R?, comment RESISTOR, American symbol
GateName_1: G$1; SymbolName_1: RCL_R-US; DeviceName: M2012; DeviceSetName: RCL_R-US_; POPULARITY: 0; LibraryName: MitchSwitch_Bypass; Package: RCL_M2012; SPICEPREFIX: R
footprint RCL_M2012
pins: 1, 2

## RCL_R-US_M2309
designator R?, comment RESISTOR, American symbol
GateName_1: G$1; SymbolName_1: RCL_R-US; DeviceName: M2309; DeviceSetName: RCL_R-US_; POPULARITY: 0; LibraryName: MitchSwitch_Bypass; Package: RCL_M2309; SPICEPREFIX: R
footprint RCL_M2309
pins: 1, 2

## RCL_R-US_M3216
designator R?, comment RESISTOR, American symbol
GateName_1: G$1; SymbolName_1: RCL_R-US; DeviceName: M3216; DeviceSetName: RCL_R-US_; POPULARITY: 0; LibraryName: MitchSwitch_Bypass; Package: RCL_M3216; SPICEPREFIX: R
footprint RCL_M3216
pins: 1, 2

## RCL_R-US_M3516
designator R?, comment RESISTOR, American symbol
GateName_1: G$1; SymbolName_1: RCL_R-US; DeviceName: M3516; DeviceSetName: RCL_R-US_; POPULARITY: 0; LibraryName: MitchSwitch_Bypass; Package: RCL_M3516; SPICEPREFIX: R
footprint RCL_M3516
pins: 1, 2

## RCL_R-US_M5923
designator R?, comment RESISTOR, American symbol
GateName_1: G$1; SymbolName_1: RCL_R-US; DeviceName: M5923; DeviceSetName: RCL_R-US_; POPULARITY: 0; LibraryName: MitchSwitch_Bypass; Package: RCL_M5923; SPICEPREFIX: R
footprint RCL_M5923
pins: 1, 2

## RCL_R-US_MELF0102AX
designator R?, comment RESISTOR, American symbol
GateName_1: G$1; SymbolName_1: RCL_R-US; DeviceName: MELF0102AX; DeviceSetName: RCL_R-US_; POPULARITY: 0; LibraryName: MitchSwitch_Bypass; Package: RCL_MINI_MELF-0102AX; SPICEPREFIX: R
footprint RCL_MINI_MELF-0102AX
pins: 1, 2

## RCL_R-US_MELF0102R
designator R?, comment RESISTOR, American symbol
GateName_1: G$1; SymbolName_1: RCL_R-US; DeviceName: MELF0102R; DeviceSetName: RCL_R-US_; POPULARITY: 1; LibraryName: MitchSwitch_Bypass; Package: RCL_MINI_MELF-0102R; SPICEPREFIX: R
footprint RCL_MINI_MELF-0102R
pins: 1, 2

## RCL_R-US_MELF0102W
designator R?, comment RESISTOR, American symbol
GateName_1: G$1; SymbolName_1: RCL_R-US; DeviceName: MELF0102W; DeviceSetName: RCL_R-US_; POPULARITY: 0; LibraryName: MitchSwitch_Bypass; Package: RCL_MINI_MELF-0102W; SPICEPREFIX: R
footprint RCL_MINI_MELF-0102W
pins: 1, 2

## RCL_R-US_MELF0204R
designator R?, comment RESISTOR, American symbol
GateName_1: G$1; SymbolName_1: RCL_R-US; DeviceName: MELF0204R; DeviceSetName: RCL_R-US_; POPULARITY: 1; LibraryName: MitchSwitch_Bypass; Package: RCL_MINI_MELF-0204R; SPICEPREFIX: R
footprint RCL_MINI_MELF-0204R
pins: 1, 2

## RCL_R-US_MELF0204W
designator R?, comment RESISTOR, American symbol
GateName_1: G$1; SymbolName_1: RCL_R-US; DeviceName: MELF0204W; DeviceSetName: RCL_R-US_; POPULARITY: 0; LibraryName: MitchSwitch_Bypass; Package: RCL_MINI_MELF-0204W; SPICEPREFIX: R
footprint RCL_MINI_MELF-0204W
pins: 1, 2

## RCL_R-US_MELF0207R
designator R?, comment RESISTOR, American symbol
GateName_1: G$1; SymbolName_1: RCL_R-US; DeviceName: MELF0207R; DeviceSetName: RCL_R-US_; POPULARITY: 0; LibraryName: MitchSwitch_Bypass; Package: RCL_MINI_MELF-0207R; SPICEPREFIX: R
footprint RCL_MINI_MELF-0207R
pins: 1, 2

## RCL_R-US_MELF0207W
designator R?, comment RESISTOR, American symbol
GateName_1: G$1; SymbolName_1: RCL_R-US; DeviceName: MELF0207W; DeviceSetName: RCL_R-US_; POPULARITY: 0; LibraryName: MitchSwitch_Bypass; Package: RCL_MINI_MELF-0207W; SPICEPREFIX: R
footprint RCL_MINI_MELF-0207W
pins: 1, 2

## RCL_R-US_R0201
designator R?, comment RESISTOR, American symbol
GateName_1: G$1; SymbolName_1: RCL_R-US; DeviceName: R0201; DeviceSetName: RCL_R-US_; POPULARITY: 0; LibraryName: MitchSwitch_Bypass; Package: RCL_R0201; SPICEPREFIX: R
footprint RCL_R0201
pins: 1, 2

## RCL_R-US_R0402
designator R?, comment RESISTOR, American symbol
GateName_1: G$1; SymbolName_1: RCL_R-US; DeviceName: R0402; DeviceSetName: RCL_R-US_; POPULARITY: 34; LibraryName: MitchSwitch_Bypass; Package: RCL_R0402; SPICEPREFIX: R
footprint RCL_R0402
pins: 1, 2

## RCL_R-US_R0603
designator R?, comment RESISTOR, American symbol
GateName_1: G$1; SymbolName_1: RCL_R-US; DeviceName: R0603; DeviceSetName: RCL_R-US_; POPULARITY: 77; LibraryName: MitchSwitch_Bypass; Package: RCL_R0603; SPICEPREFIX: R
footprint RCL_R0603
pins: 1, 2

## RCL_R-US_R0805
designator R?, comment RESISTOR, American symbol
GateName_1: G$1; SymbolName_1: RCL_R-US; DeviceName: R0805; DeviceSetName: RCL_R-US_; POPULARITY: 85; LibraryName: MitchSwitch_Bypass; Package: RCL_R0805; SPICEPREFIX: R
footprint RCL_R0805
pins: 1, 2

## RCL_R-US_R0805W
designator R?, comment RESISTOR, American symbol
GateName_1: G$1; SymbolName_1: RCL_R-US; DeviceName: R0805W; DeviceSetName: RCL_R-US_; POPULARITY: 0; LibraryName: MitchSwitch_Bypass; Package: RCL_R0805W; SPICEPREFIX: R
footprint RCL_R0805W
pins: 1, 2

## RCL_R-US_R1206
designator R?, comment RESISTOR, American symbol
GateName_1: G$1; SymbolName_1: RCL_R-US; DeviceName: R1206; DeviceSetName: RCL_R-US_; POPULARITY: 19; LibraryName: MitchSwitch_Bypass; Package: RCL_R1206; SPICEPREFIX: R
footprint RCL_R1206
pins: 1, 2

## RCL_R-US_R1206W
designator R?, comment RESISTOR, American symbol
GateName_1: G$1; SymbolName_1: RCL_R-US; DeviceName: R1206W; DeviceSetName: RCL_R-US_; POPULARITY: 0; LibraryName: MitchSwitch_Bypass; Package: RCL_R1206W; SPICEPREFIX: R
footprint RCL_R1206W
pins: 1, 2

## RCL_R-US_R1210
designator R?, comment RESISTOR, American symbol
GateName_1: G$1; SymbolName_1: RCL_R-US; DeviceName: R1210; DeviceSetName: RCL_R-US_; POPULARITY: 0; LibraryName: MitchSwitch_Bypass; Package: RCL_R1210; SPICEPREFIX: R
footprint RCL_R1210
pins: 1, 2

## RCL_R-US_R1210W
designator R?, comment RESISTOR, American symbol
GateName_1: G$1; SymbolName_1: RCL_R-US; DeviceName: R1210W; DeviceSetName: RCL_R-US_; POPULARITY: 0; LibraryName: MitchSwitch_Bypass; Package: RCL_R1210W; SPICEPREFIX: R
footprint RCL_R1210W
pins: 1, 2

## RCL_R-US_R1218
designator R?, comment RESISTOR, American symbol
GateName_1: G$1; SymbolName_1: RCL_R-US; DeviceName: R1218; DeviceSetName: RCL_R-US_; POPULARITY: 0; LibraryName: MitchSwitch_Bypass; Package: RCL_R1218; SPICEPREFIX: R
footprint RCL_R1218
pins: 1, 2

## RCL_R-US_R2010
designator R?, comment RESISTOR, American symbol
GateName_1: G$1; SymbolName_1: RCL_R-US; DeviceName: R2010; DeviceSetName: RCL_R-US_; POPULARITY: 0; LibraryName: MitchSwitch_Bypass; Package: RCL_R2010; SPICEPREFIX: R
footprint RCL_R2010
pins: 1, 2

## RCL_R-US_R2010W
designator R?, comment RESISTOR, American symbol
GateName_1: G$1; SymbolName_1: RCL_R-US; DeviceName: R2010W; DeviceSetName: RCL_R-US_; POPULARITY: 0; LibraryName: MitchSwitch_Bypass; Package: RCL_R2010W; SPICEPREFIX: R
footprint RCL_R2010W
pins: 1, 2

## RCL_R-US_R2012
designator R?, comment RESISTOR, American symbol
GateName_1: G$1; SymbolName_1: RCL_R-US; DeviceName: R2012; DeviceSetName: RCL_R-US_; POPULARITY: 0; LibraryName: MitchSwitch_Bypass; Package: RCL_R2012; SPICEPREFIX: R
footprint RCL_R2012
pins: 1, 2

## RCL_R-US_R2012W
designator R?, comment RESISTOR, American symbol
GateName_1: G$1; SymbolName_1: RCL_R-US; DeviceName: R2012W; DeviceSetName: RCL_R-US_; POPULARITY: 0; LibraryName: MitchSwitch_Bypass; Package: RCL_R2012W; SPICEPREFIX: R
footprint RCL_R2012W
pins: 1, 2

## RCL_R-US_R2512
designator R?, comment RESISTOR, American symbol
GateName_1: G$1; SymbolName_1: RCL_R-US; DeviceName: R2512; DeviceSetName: RCL_R-US_; POPULARITY: 0; LibraryName: MitchSwitch_Bypass; Package: RCL_R2512; SPICEPREFIX: R
footprint RCL_R2512
pins: 1, 2

## RCL_R-US_R2512W
designator R?, comment RESISTOR, American symbol
GateName_1: G$1; SymbolName_1: RCL_R-US; DeviceName: R2512W; DeviceSetName: RCL_R-US_; POPULARITY: 2; LibraryName: MitchSwitch_Bypass; Package: RCL_R2512W; SPICEPREFIX: R
footprint RCL_R2512W
pins: 1, 2

## RCL_R-US_R3216
designator R?, comment RESISTOR, American symbol
GateName_1: G$1; SymbolName_1: RCL_R-US; DeviceName: R3216; DeviceSetName: RCL_R-US_; POPULARITY: 0; LibraryName: MitchSwitch_Bypass; Package: RCL_R3216; SPICEPREFIX: R
footprint RCL_R3216
pins: 1, 2

## RCL_R-US_R3216W
designator R?, comment RESISTOR, American symbol
GateName_1: G$1; SymbolName_1: RCL_R-US; DeviceName: R3216W; DeviceSetName: RCL_R-US_; POPULARITY: 1; LibraryName: MitchSwitch_Bypass; Package: RCL_R3216W; SPICEPREFIX: R
footprint RCL_R3216W
pins: 1, 2

## RCL_R-US_R3225
designator R?, comment RESISTOR, American symbol
GateName_1: G$1; SymbolName_1: RCL_R-US; DeviceName: R3225; DeviceSetName: RCL_R-US_; POPULARITY: 0; LibraryName: MitchSwitch_Bypass; Package: RCL_R3225; SPICEPREFIX: R
footprint RCL_R3225
pins: 1, 2

## RCL_R-US_R3225W
designator R?, comment RESISTOR, American symbol
GateName_1: G$1; SymbolName_1: RCL_R-US; DeviceName: R3225W; DeviceSetName: RCL_R-US_; POPULARITY: 0; LibraryName: MitchSwitch_Bypass; Package: RCL_R3225W; SPICEPREFIX: R
footprint RCL_R3225W
pins: 1, 2

## RCL_R-US_R4527
designator R?, comment RESISTOR, American symbol
GateName_1: G$1; SymbolName_1: RCL_R-US; DeviceName: R4527; DeviceSetName: RCL_R-US_; POPULARITY: 0; LibraryName: MitchSwitch_Bypass; Package: RCL_R4527; SPICEPREFIX: R
footprint RCL_R4527
pins: 1, 2

## RCL_R-US_R5025
designator R?, comment RESISTOR, American symbol
GateName_1: G$1; SymbolName_1: RCL_R-US; DeviceName: R5025; DeviceSetName: RCL_R-US_; POPULARITY: 0; LibraryName: MitchSwitch_Bypass; Package: RCL_R5025; SPICEPREFIX: R
footprint RCL_R5025
pins: 1, 2

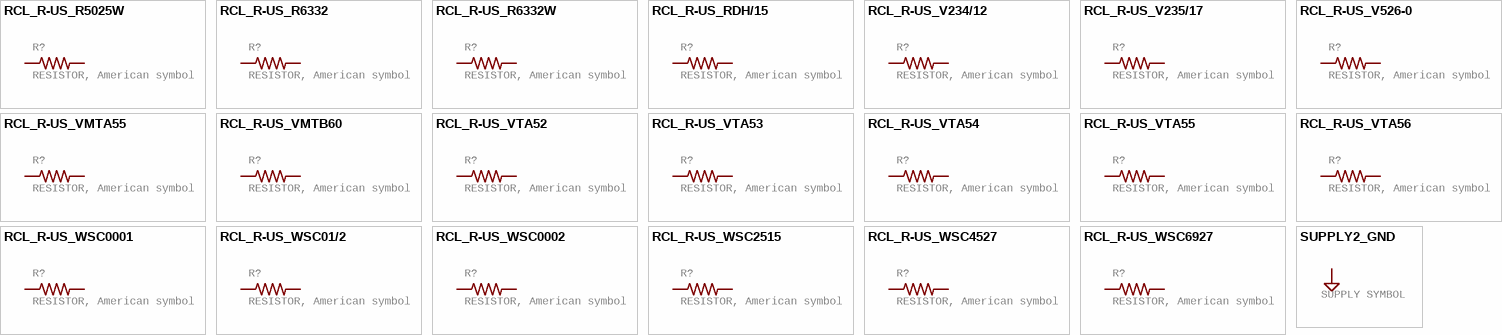
[diagram p9: symbols RCL_R-US_R5025W to SUPPLY2_GND]

## RCL_R-US_R5025W
designator R?, comment RESISTOR, American symbol
GateName_1: G$1; SymbolName_1: RCL_R-US; DeviceName: R5025W; DeviceSetName: RCL_R-US_; POPULARITY: 0; LibraryName: MitchSwitch_Bypass; Package: RCL_R5025W; SPICEPREFIX: R
footprint RCL_R5025W
pins: 1, 2

## RCL_R-US_R6332
designator R?, comment RESISTOR, American symbol
GateName_1: G$1; SymbolName_1: RCL_R-US; DeviceName: R6332; DeviceSetName: RCL_R-US_; POPULARITY: 0; LibraryName: MitchSwitch_Bypass; Package: RCL_R6332; SPICEPREFIX: R
footprint RCL_R6332
pins: 1, 2

## RCL_R-US_R6332W
designator R?, comment RESISTOR, American symbol
GateName_1: G$1; SymbolName_1: RCL_R-US; DeviceName: R6332W; DeviceSetName: RCL_R-US_; POPULARITY: 0; LibraryName: MitchSwitch_Bypass; Package: RCL_R6332W; SPICEPREFIX: R
footprint RCL_R6332W
pins: 1, 2

## RCL_R-US_RDH/15
designator R?, comment RESISTOR, American symbol
GateName_1: G$1; SymbolName_1: RCL_R-US; DeviceName: RDH/15; DeviceSetName: RCL_R-US_; POPULARITY: 0; LibraryName: MitchSwitch_Bypass; Package: RCL_RDH/15; SPICEPREFIX: R
footprint RCL_RDH/15
pins: 1, 2

## RCL_R-US_V234/12
designator R?, comment RESISTOR, American symbol
GateName_1: G$1; SymbolName_1: RCL_R-US; DeviceName: V234/12; DeviceSetName: RCL_R-US_; POPULARITY: 0; LibraryName: MitchSwitch_Bypass; Package: RCL_V234/12; SPICEPREFIX: R
footprint RCL_V234/12
pins: 1, 2

## RCL_R-US_V235/17
designator R?, comment RESISTOR, American symbol
GateName_1: G$1; SymbolName_1: RCL_R-US; DeviceName: V235/17; DeviceSetName: RCL_R-US_; POPULARITY: 0; LibraryName: MitchSwitch_Bypass; Package: RCL_V235/17; SPICEPREFIX: R
footprint RCL_V235/17
pins: 1, 2

## RCL_R-US_V526-0
designator R?, comment RESISTOR, American symbol
GateName_1: G$1; SymbolName_1: RCL_R-US; DeviceName: V526-0; DeviceSetName: RCL_R-US_; POPULARITY: 0; LibraryName: MitchSwitch_Bypass; Package: RCL_V526-0; SPICEPREFIX: R
footprint RCL_V526-0
pins: 1, 2

## RCL_R-US_VMTA55
designator R?, comment RESISTOR, American symbol
GateName_1: G$1; SymbolName_1: RCL_R-US; DeviceName: VMTA55; DeviceSetName: RCL_R-US_; POPULARITY: 0; LibraryName: MitchSwitch_Bypass; Package: RCL_VMTA55; SPICEPREFIX: R
footprint RCL_VMTA55
pins: 1, 2

## RCL_R-US_VMTB60
designator R?, comment RESISTOR, American symbol
GateName_1: G$1; SymbolName_1: RCL_R-US; DeviceName: VMTB60; DeviceSetName: RCL_R-US_; POPULARITY: 0; LibraryName: MitchSwitch_Bypass; Package: RCL_VMTB60; SPICEPREFIX: R
footprint RCL_VMTB60
pins: 1, 2

## RCL_R-US_VTA52
designator R?, comment RESISTOR, American symbol
GateName_1: G$1; SymbolName_1: RCL_R-US; DeviceName: VTA52; DeviceSetName: RCL_R-US_; POPULARITY: 3; LibraryName: MitchSwitch_Bypass; Package: RCL_VTA52; SPICEPREFIX: R
footprint RCL_VTA52
pins: 1, 2

## RCL_R-US_VTA53
designator R?, comment RESISTOR, American symbol
GateName_1: G$1; SymbolName_1: RCL_R-US; DeviceName: VTA53; DeviceSetName: RCL_R-US_; POPULARITY: 0; LibraryName: MitchSwitch_Bypass; Package: RCL_VTA53; SPICEPREFIX: R
footprint RCL_VTA53
pins: 1, 2

## RCL_R-US_VTA54
designator R?, comment RESISTOR, American symbol
GateName_1: G$1; SymbolName_1: RCL_R-US; DeviceName: VTA54; DeviceSetName: RCL_R-US_; POPULARITY: 0; LibraryName: MitchSwitch_Bypass; Package: RCL_VTA54; SPICEPREFIX: R
footprint RCL_VTA54
pins: 1, 2

## RCL_R-US_VTA55
designator R?, comment RESISTOR, American symbol
GateName_1: G$1; SymbolName_1: RCL_R-US; DeviceName: VTA55; DeviceSetName: RCL_R-US_; POPULARITY: 0; LibraryName: MitchSwitch_Bypass; Package: RCL_VTA55; SPICEPREFIX: R
footprint RCL_VTA55
pins: 1, 2

## RCL_R-US_VTA56
designator R?, comment RESISTOR, American symbol
GateName_1: G$1; SymbolName_1: RCL_R-US; DeviceName: VTA56; DeviceSetName: RCL_R-US_; POPULARITY: 0; LibraryName: MitchSwitch_Bypass; Package: RCL_VTA56; SPICEPREFIX: R
footprint RCL_VTA56
pins: 1, 2

## RCL_R-US_WSC0001
designator R?, comment RESISTOR, American symbol
GateName_1: G$1; SymbolName_1: RCL_R-US; DeviceName: WSC0001; DeviceSetName: RCL_R-US_; POPULARITY: 0; LibraryName: MitchSwitch_Bypass; Package: RCL_WSC0001; SPICEPREFIX: R
footprint RCL_WSC0001
pins: 1, 2

## RCL_R-US_WSC01/2
designator R?, comment RESISTOR, American symbol
GateName_1: G$1; SymbolName_1: RCL_R-US; DeviceName: WSC01/2; DeviceSetName: RCL_R-US_; POPULARITY: 0; LibraryName: MitchSwitch_Bypass; Package: RCL_WSC01/2; SPICEPREFIX: R
footprint RCL_WSC01/2
pins: 1, 2

## RCL_R-US_WSC0002
designator R?, comment RESISTOR, American symbol
GateName_1: G$1; SymbolName_1: RCL_R-US; DeviceName: WSC0002; DeviceSetName: RCL_R-US_; POPULARITY: 0; LibraryName: MitchSwitch_Bypass; Package: RCL_WSC0002; SPICEPREFIX: R
footprint RCL_WSC0002
pins: 1, 2

## RCL_R-US_WSC2515
designator R?, comment RESISTOR, American symbol
GateName_1: G$1; SymbolName_1: RCL_R-US; DeviceName: WSC2515; DeviceSetName: RCL_R-US_; POPULARITY: 0; LibraryName: MitchSwitch_Bypass; Package: RCL_WSC2515; SPICEPREFIX: R
footprint RCL_WSC2515
pins: 1, 2

## RCL_R-US_WSC4527
designator R?, comment RESISTOR, American symbol
GateName_1: G$1; SymbolName_1: RCL_R-US; DeviceName: WSC4527; DeviceSetName: RCL_R-US_; POPULARITY: 0; LibraryName: MitchSwitch_Bypass; Package: RCL_WSC4527; SPICEPREFIX: R
footprint RCL_WSC4527
pins: 1, 2

## RCL_R-US_WSC6927
designator R?, comment RESISTOR, American symbol
GateName_1: G$1; SymbolName_1: RCL_R-US; DeviceName: WSC6927; DeviceSetName: RCL_R-US_; POPULARITY: 0; LibraryName: MitchSwitch_Bypass; Package: RCL_WSC6927; SPICEPREFIX: R
footprint RCL_WSC6927
pins: 1, 2

## SUPPLY2_GND
designator SUPPLY?, comment SUPPLY SYMBOL
GateName_1: GND; SymbolName_1: SUPPLY2_GND:1; DeviceSetName: SUPPLY2_GND; LibraryName: MitchSwitch_Bypass
pins: ?1 GND (power)